# Altium footprint library CUI.PcbLib: 3 footprints
Each footprint in its own frame and in the unit in brackets; x right, y up, seen from the top. Pads: shape width x height; smd on the part's side, far side on the other; paste and mask are expansions set on the pad; w line width, h text height; cw(c..) or ccw(c..) is an arc to the next point about the centre after c.
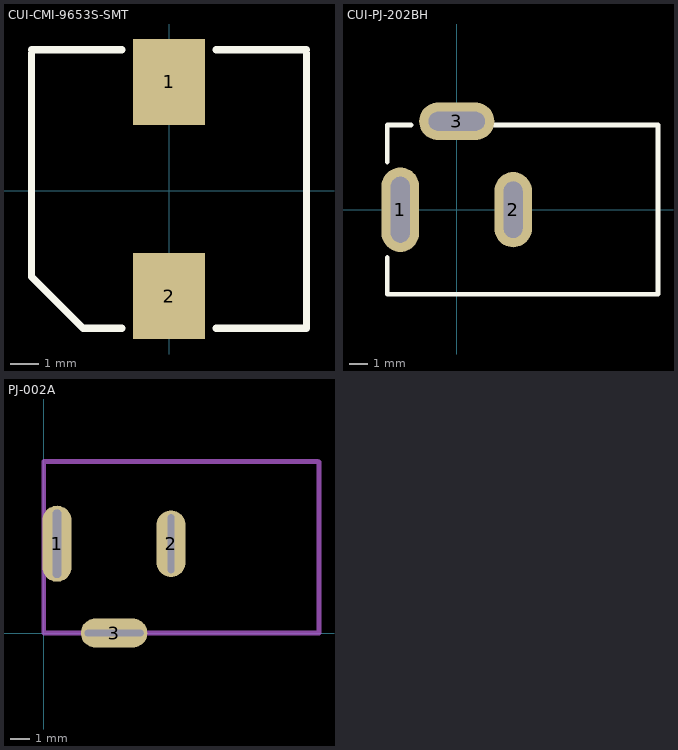
[diagram p0: the footprints below, top view; thin cyan lines are the x and y axes]

## CUI-CMI-9653S-SMT [mm] "Buzzers Indicator, Internally Driven Magnetic 3V 30mA 2.7kHz 75dB @ 3V, 10cm Surface Mount Solder Pads"
height 5
pads (2):
  rect 2.5x3 smd: 1(0,3.8) 2(0,-3.673)
Top Overlay:
  lines w0.254: -4.8,4.8 -4.8,-3 -3,-4.8 -1.651,-4.8 ; -4.8,4.927 -1.651,4.927 ; 1.651,-4.8 4.8,-4.8 4.8,4.8 ; 1.651,4.927 4.8,4.927
3D body "CUI_DEVICES_CMI-9653S-SMT-TR.step": height 5, standoff 0, extent -4.8,-5 4.8,5

## CUI-PJ-202BH [mm]
pads (3):
  oval 2x4.5 hole 1 slot 3.5 at 90 deg: 1(-3,0)
  oval 2x4 hole 1 slot 3 at 90 deg: 2(3,0)
  oval 4x2 hole 1 slot 3 at 0 deg: 3(0,4.7)
Top Overlay:
  lines w0.254: -3.7,-2.54 -3.7,-4.5 10.7,-4.5 10.7,4.5 1.641,4.5 ; -3.7,2.54 -3.7,4.5 -2.413,4.5
3D body "CUI_PJ-202BH.step": height 11, standoff -3.5, extent -3.7,-4.5 10.7,4.9

## PJ-002A [mm]
pads (3):
  oval 1.524x4 hole 3.6 slot 0.46 at 0 deg: 1(0.7,4.7)
  oval 1.524x3.5 hole 3.1 slot 0.35 at 0 deg: 2(6.7,4.7)
  oval 3.5x1.524 hole 3.1 slot 0.35 at 90 deg: 3(3.7,0)
Mechanical 1:
  lines w0.254: 0,9 0,0 14.4,0 ; 0,9.017 14.4,9.017 ; 14.478,0 14.478,9